# Altium schematic symbol library kmilo17pet-LT_OpAmp_LT2000.SchLib: 1710 symbols (part 10 of 75)
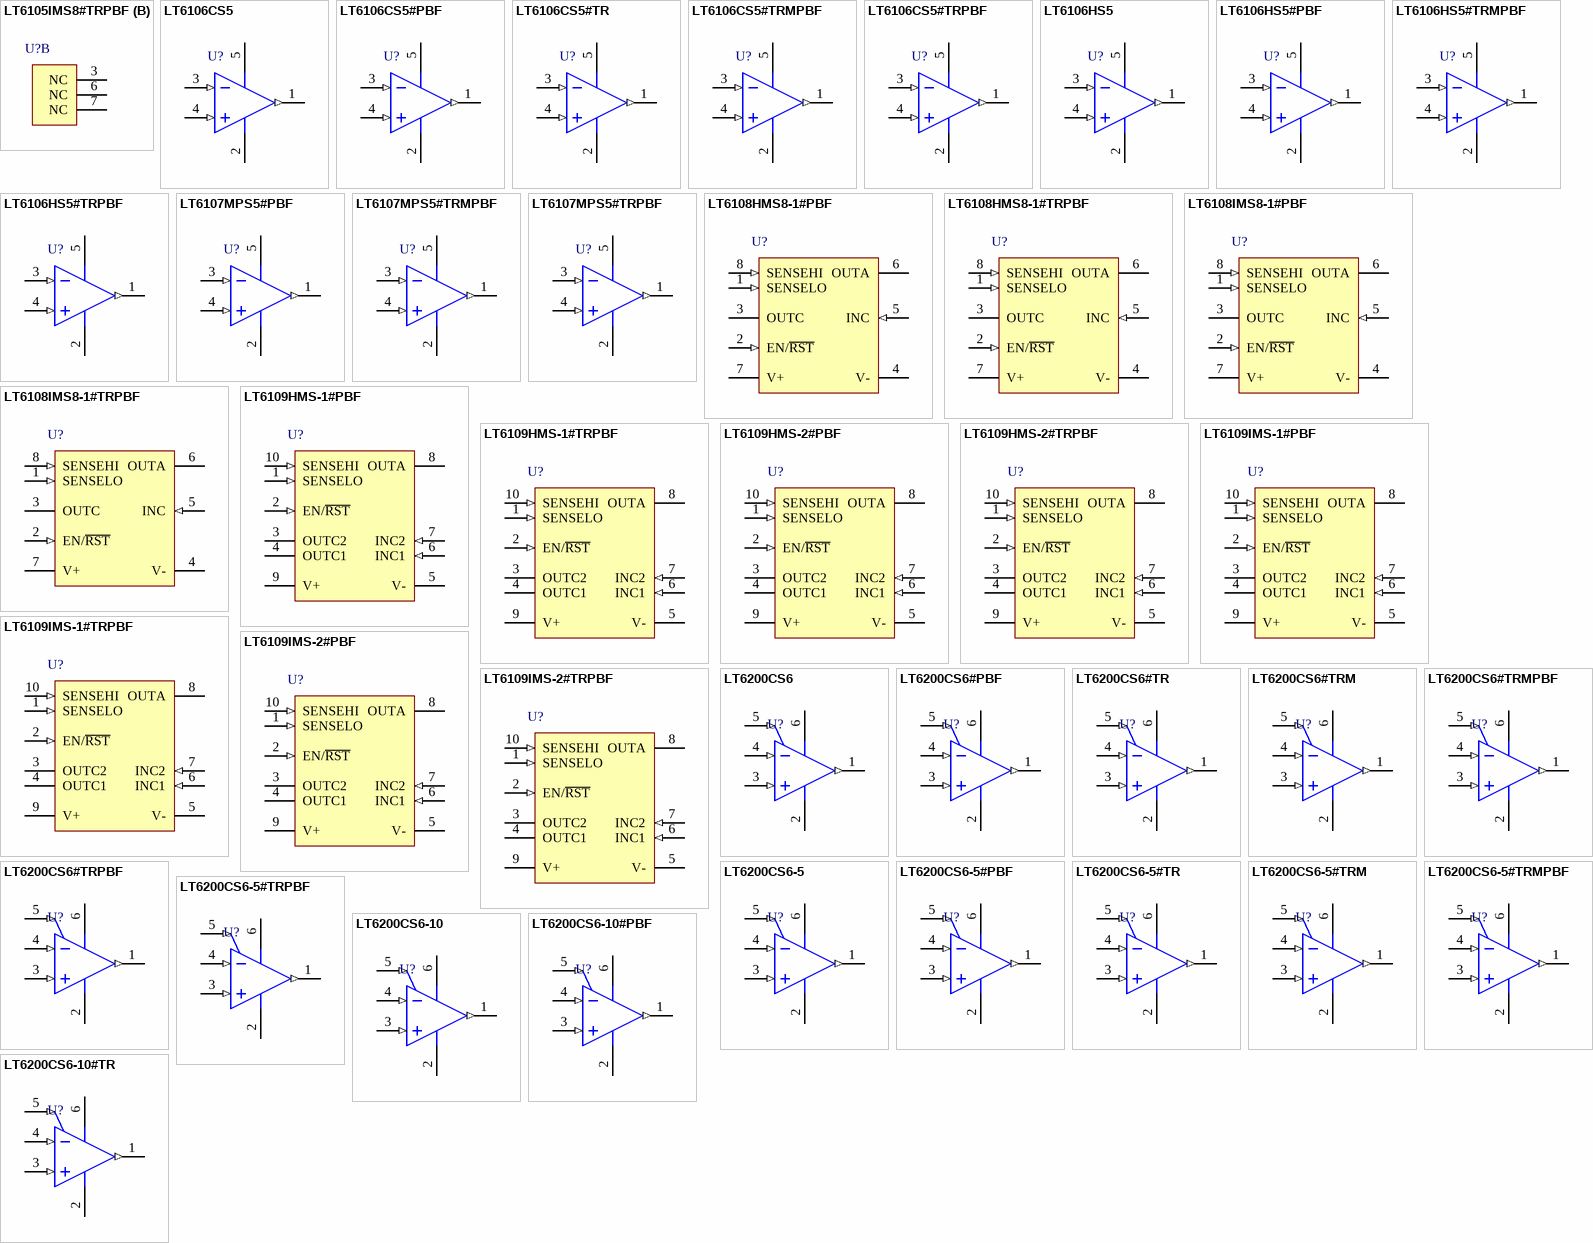
[diagram p89: symbols LT6105IMS8#TRPBF to LT6200CS6-10#TR]

## LT6107MPS5#PBF
designator U?
Single Channel, High Temperature High Side Current Sense Amplifier, 0.2 MHz Typical GBW, 2.7 to 36 V, 5-Pin SOT-23 (S5-5), Military Plastic, Pb-Free; Linear Technology Part Number: LT6107; Manufacturer: Linear Technology; PartNumber: LT6107MPS5#PBF; Channels (#): 1; GBW (MHz) Typical: 0.2; Is (mA) Typical: 0.06; Vos (mV) Guaranteed: 0.25; Vos (mV) Typical: 0.15; Vs Max (V): 36; Vs Min (V): 2.7; DatasheetVersion: Rev. B; PackageReference: LT-S5-5-TSOT-23; PackageDescription: 5-Lead Plastic TSOT-23, Body 1.63 x 2.90 mm, Pitch 0.95 mm; Supplier 1: Newark; Supplier Part Number 1: 69W6151; Supplier 2: Newark; Supplier Part Number 2: 10R2087; RoHS: Pb-Free; Type: CSA; Mounting Technology: Surface Mount; Code_JEDEC: MO-193; ComponentLink1Description: Manufacturer URL; ComponentLink1URL: http://www.linear.com/; ComponentLink2Description: Datasheet; ComponentLink2URL: http://cds.linear.com/docs/en/datasheet/6107fb.pdf; ComponentLink3Description: Package Specification; ComponentLink3URL: http://cds.linear.com/docs/en/packaging/SOT_5_05-08-1635.pdf
footprint LT-S5-5-TSOT-23_N (SOT23, 5-Leads, Body 2.90x1.63mm, Pitch 0.95mm, IPC Medium Density)
footprint LT-S5-5-TSOT-23_L (SOT23, 5-Leads, Body 2.90x1.63mm, Pitch 0.95mm, IPC High Density)
footprint LT-S5-5-TSOT-23_M (SOT23, 5-Leads, Body 2.90x1.63mm, Pitch 0.95mm, IPC Low Density)
pins: 1 OUT (out) "Current Output. OUT will source a current that is proportional to the sense voltage into an external resistor", 2 V- (power) "Normally Connected to Ground", 3 -IN (in) "The internal sense amplifi er will drive -IN to the same potential as +IN. A resistor (RIN) tied from V+ to -IN sets the output current IOUT = VSENSE/RIN. VSENSE is the voltage developed across RSENSE", 4 +IN (in) "Must be tied to the system load end of the sense resistor, either directly or through a resistor", 5 V+ (power) "Positive Supply Pin. The V+ pin should be connected directly to either side of the sense resistor, RSENSE. Supply current is drawn through this pin. The circuit may be confi gured so that the LT6106 supply current is or is (See Datasheet)"

## LT6107MPS5#TRMPBF
designator U?
Single Channel, High Temperature High Side Current Sense Amplifier, 0.2 MHz Typical GBW, 2.7 to 36 V, 5-Pin SOT-23 (S5-5), Military Plastic, Pb-Free, Mini Reel; Linear Technology Part Number: LT6107; Manufacturer: Linear Technology; PartNumber: LT6107MPS5#TRMPBF; Channels (#): 1; GBW (MHz) Typical: 0.2; Is (mA) Typical: 0.06; Vos (mV) Guaranteed: 0.25; Vos (mV) Typical: 0.15; Vs Max (V): 36; Vs Min (V): 2.7; DatasheetVersion: Rev. B; PackageReference: LT-S5-5-TSOT-23; PackageDescription: 5-Lead Plastic TSOT-23, Body 1.63 x 2.90 mm, Pitch 0.95 mm; Supplier 1: Digi-Key; Supplier Part Number 1: LT6107MPS5#TRMPBFTR-ND; Supplier 2: Digi-Key; Supplier Part Number 2: LT6107MPS5#TRMPBFCT-ND; Supplier 3: Digi-Key; Supplier Part Number 3: LT6107MPS5#TRMPBFDKR-ND; Supplier 4: Farnell; Supplier Part Number 4: 1715036RL; Supplier 5: Farnell; Supplier Part Number 5: 1715036; Supplier 6: Newark; Supplier Part Number 6: 15N3666; Packing: Mini Reel; RoHS: Pb-Free; Type: CSA; Mounting Technology: Surface Mount; Code_JEDEC: MO-193; ComponentLink1Description: Manufacturer URL; ComponentLink1URL: http://www.linear.com/; ComponentLink2Description: Datasheet; ComponentLink2URL: http://cds.linear.com/docs/en/datasheet/6107fb.pdf; ComponentLink3Description: Package Specification; ComponentLink3URL: http://cds.linear.com/docs/en/packaging/SOT_5_05-08-1635.pdf
footprint LT-S5-5-TSOT-23_N (SOT23, 5-Leads, Body 2.90x1.63mm, Pitch 0.95mm, IPC Medium Density)
footprint LT-S5-5-TSOT-23_L (SOT23, 5-Leads, Body 2.90x1.63mm, Pitch 0.95mm, IPC High Density)
footprint LT-S5-5-TSOT-23_M (SOT23, 5-Leads, Body 2.90x1.63mm, Pitch 0.95mm, IPC Low Density)
pins: 1 OUT (out) "Current Output. OUT will source a current that is proportional to the sense voltage into an external resistor", 2 V- (power) "Normally Connected to Ground", 3 -IN (in) "The internal sense amplifi er will drive -IN to the same potential as +IN. A resistor (RIN) tied from V+ to -IN sets the output current IOUT = VSENSE/RIN. VSENSE is the voltage developed across RSENSE", 4 +IN (in) "Must be tied to the system load end of the sense resistor, either directly or through a resistor", 5 V+ (power) "Positive Supply Pin. The V+ pin should be connected directly to either side of the sense resistor, RSENSE. Supply current is drawn through this pin. The circuit may be confi gured so that the LT6106 supply current is or is (See Datasheet)"

## LT6107MPS5#TRPBF
designator U?
Single Channel, High Temperature High Side Current Sense Amplifier, 0.2 MHz Typical GBW, 2.7 to 36 V, 5-Pin SOT-23 (S5-5), Military Plastic, Pb-Free, Reel; Linear Technology Part Number: LT6107; Manufacturer: Linear Technology; PartNumber: LT6107MPS5#TRPBF; Channels (#): 1; GBW (MHz) Typical: 0.2; Is (mA) Typical: 0.06; Vos (mV) Guaranteed: 0.25; Vos (mV) Typical: 0.15; Vs Max (V): 36; Vs Min (V): 2.7; DatasheetVersion: Rev. B; PackageReference: LT-S5-5-TSOT-23; PackageDescription: 5-Lead Plastic TSOT-23, Body 1.63 x 2.90 mm, Pitch 0.95 mm; Supplier 1: Digi-Key; Supplier Part Number 1: LT6107MPS5#TRPBF-ND; Packing: Reel; RoHS: Pb-Free; Type: CSA; Mounting Technology: Surface Mount; Code_JEDEC: MO-193; ComponentLink1Description: Manufacturer URL; ComponentLink1URL: http://www.linear.com/; ComponentLink2Description: Datasheet; ComponentLink2URL: http://cds.linear.com/docs/en/datasheet/6107fb.pdf; ComponentLink3Description: Package Specification; ComponentLink3URL: http://cds.linear.com/docs/en/packaging/SOT_5_05-08-1635.pdf
footprint LT-S5-5-TSOT-23_N (SOT23, 5-Leads, Body 2.90x1.63mm, Pitch 0.95mm, IPC Medium Density)
footprint LT-S5-5-TSOT-23_L (SOT23, 5-Leads, Body 2.90x1.63mm, Pitch 0.95mm, IPC High Density)
footprint LT-S5-5-TSOT-23_M (SOT23, 5-Leads, Body 2.90x1.63mm, Pitch 0.95mm, IPC Low Density)
pins: 1 OUT (out) "Current Output. OUT will source a current that is proportional to the sense voltage into an external resistor", 2 V- (power) "Normally Connected to Ground", 3 -IN (in) "The internal sense amplifi er will drive -IN to the same potential as +IN. A resistor (RIN) tied from V+ to -IN sets the output current IOUT = VSENSE/RIN. VSENSE is the voltage developed across RSENSE", 4 +IN (in) "Must be tied to the system load end of the sense resistor, either directly or through a resistor", 5 V+ (power) "Positive Supply Pin. The V+ pin should be connected directly to either side of the sense resistor, RSENSE. Supply current is drawn through this pin. The circuit may be confi gured so that the LT6106 supply current is or is (See Datasheet)"

## LT6108HMS8-1#PBF
designator U?
Single Channel, High Side Current Sense Amplifier with Reference and Latching Comparator, 1 MHz Typical GBW, 2.7 to 60 V, 8-Pin SOP (MS8-8), High Temperature / Automotive, Pb-Free; Linear Technology Part Number: LT6108-1; Manufacturer: Linear Technology; PartNumber: LT6108HMS8-1#PBF; Channels (#): 1; Is (mA) Typical: 0.045; Vos (mV) Typical: 0.35; Vs Max (V): 60; Vs Min (V): 2.7; PackageVersion: Rev G; PackageReference: LT-MS8-8; PackageDescription: 8-Lead Plastic Small Outline, Body 3.9 x 4.9 mm, Pitch 1.27 mm; Supplier 1: Digi-Key; Supplier Part Number 1: LT6108HMS8-1#PBF-ND; Supplier 2: Farnell; Supplier Part Number 2: 2097860; GBW (MHz) Typical: 1; RoHS: Pb-Free; Type: CSA; Mounting Technology: Surface Mount; ComponentLink1Description: Manufacturer URL; ComponentLink1URL: http://www.linear.com/; ComponentLink2Description: Datasheet; ComponentLink2URL: http://cds.linear.com/docs/en/datasheet/610812f.pdf; ComponentLink3Description: Package Specification; ComponentLink3URL: http://cds.linear.com/docs/en/packaging/05081610_G_SO8.pdf
footprint LT-MS8-8_N (SOP, 8-Leads, Body 3x3mm, Pitch 0.65mm, IPC Medium Density)
footprint LT-MS8-8_L (SOP, 8-Leads, Body 3x3mm, Pitch 0.65mm, IPC High Density)
footprint LT-MS8-8_M (SOP, 8-Leads, Body 3x3mm, Pitch 0.65mm, IPC Low Density)
pins: 1 SENSELO (in) "Sense Amplifier Input. This pin must be tied to the load end of the sense resistor.", 2 EN/~{RST} (in) "Enable and Latch Reset Input. When the enable pin is pulled high the LT6108-1 is enabled. When the enable pin is pulled low for longer than typically 40us, the LT6108-1 will enter the shutdown mode. Pulsing this pin low for (See Datasheet)", 3 OUTC (hiz) "Open-Drain Comparator Output. Off-state voltage may be as high as 60V above V-, regardless of V+ used.", 4 V- (power) "Negative Supply Pin. This pin is normally connected to ground.", 5 INC (in) "This is the inverting input of the comparator. The other comparator input is internally connected to the 400mV reference.", 6 OUTA (hiz) "Current Output of the Sense Amplifier. This pin will source a current that is equal to the sense voltage divided by the external gain setting resistor, RIN.", 7 V+ (power) "Positive Supply Pin. The V+ pin can be connected directly to either side of the sense resistor, RSENSE. When V+ is tied to the load end of the sense resistor, the SENSEHI pin can go up to 0.2V above V+. Supply current is (See Datasheet)", 8 SENSEHI (in) "Sense Amplifier Input. The internal sense amplifier will drive SENSEHI to the same potential as SENSELO. A resistor (typically RIN) tied from supply to SENSEHI sets the output current, IOUT = VSENSE/RIN, where VSENSE is the (See Datasheet)"

## LT6108HMS8-1#TRPBF
designator U?
Single Channel, High Side Current Sense Amplifier with Reference and Latching Comparator, 1 MHz Typical GBW, 2.7 to 60 V, 8-Pin SOP (MS8-8), High Temperature / Automotive, Pb-Free, Reel; Linear Technology Part Number: LT6108-1; Manufacturer: Linear Technology; PartNumber: LT6108HMS8-1#TRPBF; Channels (#): 1; Is (mA) Typical: 0.045; Vos (mV) Typical: 0.35; Vs Max (V): 60; Vs Min (V): 2.7; PackageVersion: Rev G; PackageReference: LT-MS8-8; PackageDescription: 8-Lead Plastic Small Outline, Body 3.9 x 4.9 mm, Pitch 1.27 mm; Supplier 1: Digi-Key; Supplier Part Number 1: LT6108HMS8-1#TRPBF-ND; GBW (MHz) Typical: 1; Packing: Reel; RoHS: Pb-Free; Type: CSA; Mounting Technology: Surface Mount; ComponentLink1Description: Manufacturer URL; ComponentLink1URL: http://www.linear.com/; ComponentLink2Description: Datasheet; ComponentLink2URL: http://cds.linear.com/docs/en/datasheet/610812f.pdf; ComponentLink3Description: Package Specification; ComponentLink3URL: http://cds.linear.com/docs/en/packaging/05081610_G_SO8.pdf
footprint LT-MS8-8_N (SOP, 8-Leads, Body 3x3mm, Pitch 0.65mm, IPC Medium Density)
footprint LT-MS8-8_L (SOP, 8-Leads, Body 3x3mm, Pitch 0.65mm, IPC High Density)
footprint LT-MS8-8_M (SOP, 8-Leads, Body 3x3mm, Pitch 0.65mm, IPC Low Density)
pins: 1 SENSELO (in) "Sense Amplifier Input. This pin must be tied to the load end of the sense resistor.", 2 EN/~{RST} (in) "Enable and Latch Reset Input. When the enable pin is pulled high the LT6108-1 is enabled. When the enable pin is pulled low for longer than typically 40us, the LT6108-1 will enter the shutdown mode. Pulsing this pin low for (See Datasheet)", 3 OUTC (hiz) "Open-Drain Comparator Output. Off-state voltage may be as high as 60V above V-, regardless of V+ used.", 4 V- (power) "Negative Supply Pin. This pin is normally connected to ground.", 5 INC (in) "This is the inverting input of the comparator. The other comparator input is internally connected to the 400mV reference.", 6 OUTA (hiz) "Current Output of the Sense Amplifier. This pin will source a current that is equal to the sense voltage divided by the external gain setting resistor, RIN.", 7 V+ (power) "Positive Supply Pin. The V+ pin can be connected directly to either side of the sense resistor, RSENSE. When V+ is tied to the load end of the sense resistor, the SENSEHI pin can go up to 0.2V above V+. Supply current is (See Datasheet)", 8 SENSEHI (in) "Sense Amplifier Input. The internal sense amplifier will drive SENSEHI to the same potential as SENSELO. A resistor (typically RIN) tied from supply to SENSEHI sets the output current, IOUT = VSENSE/RIN, where VSENSE is the (See Datasheet)"

## LT6108IMS8-1#PBF
designator U?
Single Channel, High Side Current Sense Amplifier with Reference and Latching Comparator, 1 MHz Typical GBW, 2.7 to 60 V, 8-Pin SOP (MS8-8), Industrial, Pb-Free; Linear Technology Part Number: LT6108-1; Manufacturer: Linear Technology; PartNumber: LT6108IMS8-1#PBF; Channels (#): 1; Is (mA) Typical: 0.045; Vos (mV) Typical: 0.35; Vs Max (V): 60; Vs Min (V): 2.7; PackageVersion: Rev G; PackageReference: LT-MS8-8; PackageDescription: 8-Lead Plastic Small Outline, Body 3.9 x 4.9 mm, Pitch 1.27 mm; Supplier 1: Digi-Key; Supplier Part Number 1: LT6108IMS8-1#PBF-ND; Supplier 2: Farnell; Supplier Part Number 2: 2097863; GBW (MHz) Typical: 1; RoHS: Pb-Free; Type: CSA; Mounting Technology: Surface Mount; ComponentLink1Description: Manufacturer URL; ComponentLink1URL: http://www.linear.com/; ComponentLink2Description: Datasheet; ComponentLink2URL: http://cds.linear.com/docs/en/datasheet/610812f.pdf; ComponentLink3Description: Package Specification; ComponentLink3URL: http://cds.linear.com/docs/en/packaging/05081610_G_SO8.pdf
footprint LT-MS8-8_N (SOP, 8-Leads, Body 3x3mm, Pitch 0.65mm, IPC Medium Density)
footprint LT-MS8-8_L (SOP, 8-Leads, Body 3x3mm, Pitch 0.65mm, IPC High Density)
footprint LT-MS8-8_M (SOP, 8-Leads, Body 3x3mm, Pitch 0.65mm, IPC Low Density)
pins: 1 SENSELO (in) "Sense Amplifier Input. This pin must be tied to the load end of the sense resistor.", 2 EN/~{RST} (in) "Enable and Latch Reset Input. When the enable pin is pulled high the LT6108-1 is enabled. When the enable pin is pulled low for longer than typically 40us, the LT6108-1 will enter the shutdown mode. Pulsing this pin low for (See Datasheet)", 3 OUTC (hiz) "Open-Drain Comparator Output. Off-state voltage may be as high as 60V above V-, regardless of V+ used.", 4 V- (power) "Negative Supply Pin. This pin is normally connected to ground.", 5 INC (in) "This is the inverting input of the comparator. The other comparator input is internally connected to the 400mV reference.", 6 OUTA (hiz) "Current Output of the Sense Amplifier. This pin will source a current that is equal to the sense voltage divided by the external gain setting resistor, RIN.", 7 V+ (power) "Positive Supply Pin. The V+ pin can be connected directly to either side of the sense resistor, RSENSE. When V+ is tied to the load end of the sense resistor, the SENSEHI pin can go up to 0.2V above V+. Supply current is (See Datasheet)", 8 SENSEHI (in) "Sense Amplifier Input. The internal sense amplifier will drive SENSEHI to the same potential as SENSELO. A resistor (typically RIN) tied from supply to SENSEHI sets the output current, IOUT = VSENSE/RIN, where VSENSE is the (See Datasheet)"

## LT6108IMS8-1#TRPBF
designator U?
Single Channel, High Side Current Sense Amplifier with Reference and Latching Comparator, 1 MHz Typical GBW, 2.7 to 60 V, 8-Pin SOP (MS8-8), Industrial, Pb-Free, Reel; Linear Technology Part Number: LT6108-1; Manufacturer: Linear Technology; PartNumber: LT6108IMS8-1#TRPBF; Channels (#): 1; Is (mA) Typical: 0.045; Vos (mV) Typical: 0.35; Vs Max (V): 60; Vs Min (V): 2.7; PackageVersion: Rev G; PackageReference: LT-MS8-8; PackageDescription: 8-Lead Plastic Small Outline, Body 3.9 x 4.9 mm, Pitch 1.27 mm; Supplier 1: Digi-Key; Supplier Part Number 1: LT6108IMS8-1#TRPBF-ND; GBW (MHz) Typical: 1; Packing: Reel; RoHS: Pb-Free; Type: CSA; Mounting Technology: Surface Mount; ComponentLink1Description: Manufacturer URL; ComponentLink1URL: http://www.linear.com/; ComponentLink2Description: Datasheet; ComponentLink2URL: http://cds.linear.com/docs/en/datasheet/610812f.pdf; ComponentLink3Description: Package Specification; ComponentLink3URL: http://cds.linear.com/docs/en/packaging/05081610_G_SO8.pdf
footprint LT-MS8-8_N (SOP, 8-Leads, Body 3x3mm, Pitch 0.65mm, IPC Medium Density)
footprint LT-MS8-8_L (SOP, 8-Leads, Body 3x3mm, Pitch 0.65mm, IPC High Density)
footprint LT-MS8-8_M (SOP, 8-Leads, Body 3x3mm, Pitch 0.65mm, IPC Low Density)
pins: 1 SENSELO (in) "Sense Amplifier Input. This pin must be tied to the load end of the sense resistor.", 2 EN/~{RST} (in) "Enable and Latch Reset Input. When the enable pin is pulled high the LT6108-1 is enabled. When the enable pin is pulled low for longer than typically 40us, the LT6108-1 will enter the shutdown mode. Pulsing this pin low for (See Datasheet)", 3 OUTC (hiz) "Open-Drain Comparator Output. Off-state voltage may be as high as 60V above V-, regardless of V+ used.", 4 V- (power) "Negative Supply Pin. This pin is normally connected to ground.", 5 INC (in) "This is the inverting input of the comparator. The other comparator input is internally connected to the 400mV reference.", 6 OUTA (hiz) "Current Output of the Sense Amplifier. This pin will source a current that is equal to the sense voltage divided by the external gain setting resistor, RIN.", 7 V+ (power) "Positive Supply Pin. The V+ pin can be connected directly to either side of the sense resistor, RSENSE. When V+ is tied to the load end of the sense resistor, the SENSEHI pin can go up to 0.2V above V+. Supply current is (See Datasheet)", 8 SENSEHI (in) "Sense Amplifier Input. The internal sense amplifier will drive SENSEHI to the same potential as SENSELO. A resistor (typically RIN) tied from supply to SENSEHI sets the output current, IOUT = VSENSE/RIN, where VSENSE is the (See Datasheet)"

## LT6109HMS-1#PBF
designator U?
Single Channel, High Side Current Sense Amplifier with Reference and Comparators, 1 MHz Typical GBW, 2.7 to 60 V, 10-Pin SOP (MS-10), High Temperature / Automotive, Pb-Free; Linear Technology Part Number: LTC6109-1; Manufacturer: Linear Technology; PartNumber: LT6109HMS-1#PBF; Channels (#): 1; Is (mA) Typical: 0.475; Vos (mV) Typical: 0.35; Vs Max (V): 60; Vs Min (V): 2.7; PackageVersion: Rev E; PackageReference: LT-MS-10; PackageDescription: 10-Lead Plastic MSOP, Body 3 x 3 mm, Pitch 0.5 mm; Supplier 1: Digi-Key; Supplier Part Number 1: LT6109HMS-1#PBF-ND; Supplier 2: Farnell; Supplier Part Number 2: 2009053; Supplier 3: Newark; Supplier Part Number 3: 59T5909; GBW (MHz) Typical: 1; RoHS: Pb-Free; Type: CSA; Mounting Technology: Surface Mount; ComponentLink1Description: Manufacturer URL; ComponentLink1URL: http://www.linear.com/; ComponentLink2Description: Datasheet; ComponentLink2URL: http://cds.linear.com/docs/en/datasheet/610912f.pdf; ComponentLink3Description: Package Specification; ComponentLink3URL: http://cds.linear.com/docs/en/packaging/MSOP_10_05-08-1661.pdf
footprint LT-MS-10_N (SOP, 10-Leads, Body 3x3mm, Pitch 0.50mm, IPC Medium Density)
footprint LT-MS-10_L (SOP, 10-Leads, Body 3x3mm, Pitch 0.50mm, IPC High Density)
footprint LT-MS-10_M (SOP, 10-Leads, Body 3x3mm, Pitch 0.50mm, IPC Low Density)
pins: 1 SENSELO (in) "Sense Amplifier Input. This pin must be tied to the load end of the sense resistor.", 2 EN/~{RST} (in) "Enable/Comparator Reset Input. When low for longer than 150us typically, the LT6109 will enter shutdown mode. Pulsing this pin low for between 2us and 15us will reset the comparators of the LT6109.", 3 OUTC2 (hiz) "Open-Drain Output for Comparator 2. Off-state voltage may be as high as 60V above ground, regardless of V+ used.", 4 OUTC1 (hiz) "Open-Drain Output for Comparator 1. Off-state voltage may be as high as 60V above ground, regardless of V+ used.", 5 V- (power) "Negative Supply Pin. This pin is normally connected to ground", 6 INC1 (in) "Inverting Input of Comparator 1. The noninverting input is internally connected to the 400mV reference", 7 INC2 (in) "Input of Comparator 2. For the LT6109-1 this is the noninverting input of comparator 2. For the LT6109-2 this is the inverting input of comparator 2. The other comparator input is internally connected to the 400mV reference.", 8 OUTA (hiz) "Current Output of the Sense Amplifier. This pin will source a current that is equal to the sense voltage divided by the external gain setting resistor, RIN.", 9 V+ (power) "Positive Supply Pin. The V+ pin can be connected directly to either side of the sense resistor, RSENSE. When V+ is tied to the load end of the sense resistor, the SENSEHI pin can go up to 0.2V above V+. Supply current is (See Datasheet)", 10 SENSEHI (in) "Sense Amplifier Input. The internal sense amplifier will drive SENSEHI to the same potential as SENSELO. A resistor (typically RIN) tied from V+ to SENSEHI sets the output current, IOUT = VSENSE/RIN, where VSENSE is the (See Datasheet)"

## LT6109HMS-1#TRPBF
designator U?
Single Channel, High Side Current Sense Amplifier with Reference and Comparators, 1 MHz Typical GBW, 2.7 to 60 V, 10-Pin SOP (MS-10), High Temperature / Automotive, Pb-Free, Reel; Linear Technology Part Number: LTC6109-1; Manufacturer: Linear Technology; PartNumber: LT6109HMS-1#TRPBF; Channels (#): 1; Is (mA) Typical: 0.475; Vos (mV) Typical: 0.35; Vs Max (V): 60; Vs Min (V): 2.7; PackageVersion: Rev E; PackageReference: LT-MS-10; PackageDescription: 10-Lead Plastic MSOP, Body 3 x 3 mm, Pitch 0.5 mm; Supplier 1: Digi-Key; Supplier Part Number 1: LT6109HMS-1#TRPBF-ND; GBW (MHz) Typical: 1; Packing: Reel; RoHS: Pb-Free; Type: CSA; Mounting Technology: Surface Mount; ComponentLink1Description: Manufacturer URL; ComponentLink1URL: http://www.linear.com/; ComponentLink2Description: Datasheet; ComponentLink2URL: http://cds.linear.com/docs/en/datasheet/610912f.pdf; ComponentLink3Description: Package Specification; ComponentLink3URL: http://cds.linear.com/docs/en/packaging/MSOP_10_05-08-1661.pdf
footprint LT-MS-10_N (SOP, 10-Leads, Body 3x3mm, Pitch 0.50mm, IPC Medium Density)
footprint LT-MS-10_L (SOP, 10-Leads, Body 3x3mm, Pitch 0.50mm, IPC High Density)
footprint LT-MS-10_M (SOP, 10-Leads, Body 3x3mm, Pitch 0.50mm, IPC Low Density)
pins: 1 SENSELO (in) "Sense Amplifier Input. This pin must be tied to the load end of the sense resistor.", 2 EN/~{RST} (in) "Enable/Comparator Reset Input. When low for longer than 150us typically, the LT6109 will enter shutdown mode. Pulsing this pin low for between 2us and 15us will reset the comparators of the LT6109.", 3 OUTC2 (hiz) "Open-Drain Output for Comparator 2. Off-state voltage may be as high as 60V above ground, regardless of V+ used.", 4 OUTC1 (hiz) "Open-Drain Output for Comparator 1. Off-state voltage may be as high as 60V above ground, regardless of V+ used.", 5 V- (power) "Negative Supply Pin. This pin is normally connected to ground", 6 INC1 (in) "Inverting Input of Comparator 1. The noninverting input is internally connected to the 400mV reference", 7 INC2 (in) "Input of Comparator 2. For the LT6109-1 this is the noninverting input of comparator 2. For the LT6109-2 this is the inverting input of comparator 2. The other comparator input is internally connected to the 400mV reference.", 8 OUTA (hiz) "Current Output of the Sense Amplifier. This pin will source a current that is equal to the sense voltage divided by the external gain setting resistor, RIN.", 9 V+ (power) "Positive Supply Pin. The V+ pin can be connected directly to either side of the sense resistor, RSENSE. When V+ is tied to the load end of the sense resistor, the SENSEHI pin can go up to 0.2V above V+. Supply current is (See Datasheet)", 10 SENSEHI (in) "Sense Amplifier Input. The internal sense amplifier will drive SENSEHI to the same potential as SENSELO. A resistor (typically RIN) tied from V+ to SENSEHI sets the output current, IOUT = VSENSE/RIN, where VSENSE is the (See Datasheet)"

## LT6109HMS-2#PBF
designator U?
Single Channel, High Side Current Sense Amplifier with Reference and Comparators, 1 MHz Typical GBW, 2.7 to 60 V, 10-Pin SOP (MS-10), High Temperature / Automotive, Pb-Free; Linear Technology Part Number: LTC6109-2; Manufacturer: Linear Technology; PartNumber: LT6109HMS-2#PBF; Channels (#): 1; Is (mA) Typical: 0.475; Vos (mV) Typical: 0.35; Vs Max (V): 60; Vs Min (V): 2.7; PackageVersion: Rev E; PackageReference: LT-MS-10; PackageDescription: 10-Lead Plastic MSOP, Body 3 x 3 mm, Pitch 0.5 mm; Supplier 1: Digi-Key; Supplier Part Number 1: LT6109HMS-2#PBF-ND; Supplier 2: Farnell; Supplier Part Number 2: 2009054; Supplier 3: Newark; Supplier Part Number 3: 59T5911; GBW (MHz) Typical: 1; RoHS: Pb-Free; Type: CSA; Mounting Technology: Surface Mount; ComponentLink1Description: Manufacturer URL; ComponentLink1URL: http://www.linear.com/; ComponentLink2Description: Datasheet; ComponentLink2URL: http://cds.linear.com/docs/en/datasheet/610912f.pdf; ComponentLink3Description: Package Specification; ComponentLink3URL: http://cds.linear.com/docs/en/packaging/MSOP_10_05-08-1661.pdf
footprint LT-MS-10_N (SOP, 10-Leads, Body 3x3mm, Pitch 0.50mm, IPC Medium Density)
footprint LT-MS-10_L (SOP, 10-Leads, Body 3x3mm, Pitch 0.50mm, IPC High Density)
footprint LT-MS-10_M (SOP, 10-Leads, Body 3x3mm, Pitch 0.50mm, IPC Low Density)
pins: 1 SENSELO (in) "Sense Amplifier Input. This pin must be tied to the load end of the sense resistor.", 2 EN/~{RST} (in) "Enable/Comparator Reset Input. When low for longer than 150us typically, the LT6109 will enter shutdown mode. Pulsing this pin low for between 2us and 15us will reset the comparators of the LT6109.", 3 OUTC2 (hiz) "Open-Drain Output for Comparator 2. Off-state voltage may be as high as 60V above ground, regardless of V+ used.", 4 OUTC1 (hiz) "Open-Drain Output for Comparator 1. Off-state voltage may be as high as 60V above ground, regardless of V+ used.", 5 V- (power) "Negative Supply Pin. This pin is normally connected to ground.", 6 INC1 (in) "Inverting Input of Comparator 1. The noninverting input is internally connected to the 400mV reference.", 7 INC2 (in) "Input of Comparator 2. For the LT6109-1 this is the noninverting input of comparator 2. For the LT6109-2 this is the inverting input of comparator 2. The other comparator input is internally connected to the 400mV reference.", 8 OUTA (hiz) "Current Output of the Sense Amplifier. This pin will source a current that is equal to the sense voltage divided by the external gain setting resistor, RIN.", 9 V+ (power) "Positive Supply Pin. The V+ pin can be connected directly to either side of the sense resistor, RSENSE. When V+ is tied to the load end of the sense resistor, the SENSEHI pin can go up to 0.2V above V+. Supply current is (See Datasheet)", 10 SENSEHI (in) "Sense Amplifier Input. The internal sense amplifier will drive SENSEHI to the same potential as SENSELO. A resistor (typically RIN) tied from V+ to SENSEHI sets the output current, IOUT = VSENSE/RIN, where VSENSE is the (See Datasheet)"

## LT6109HMS-2#TRPBF
designator U?
Single Channel, High Side Current Sense Amplifier with Reference and Comparators, 1 MHz Typical GBW, 2.7 to 60 V, 10-Pin SOP (MS-10), High Temperature / Automotive, Pb-Free, Reel; Linear Technology Part Number: LTC6109-2; Manufacturer: Linear Technology; PartNumber: LT6109HMS-2#TRPBF; Channels (#): 1; Is (mA) Typical: 0.475; Vos (mV) Typical: 0.35; Vs Max (V): 60; Vs Min (V): 2.7; PackageVersion: Rev E; PackageReference: LT-MS-10; PackageDescription: 10-Lead Plastic MSOP, Body 3 x 3 mm, Pitch 0.5 mm; Supplier 1: Digi-Key; Supplier Part Number 1: LT6109HMS-2#TRPBF-ND; GBW (MHz) Typical: 1; Packing: Reel; RoHS: Pb-Free; Type: CSA; Mounting Technology: Surface Mount; ComponentLink1Description: Manufacturer URL; ComponentLink1URL: http://www.linear.com/; ComponentLink2Description: Datasheet; ComponentLink2URL: http://cds.linear.com/docs/en/datasheet/610912f.pdf; ComponentLink3Description: Package Specification; ComponentLink3URL: http://cds.linear.com/docs/en/packaging/MSOP_10_05-08-1661.pdf
footprint LT-MS-10_N (SOP, 10-Leads, Body 3x3mm, Pitch 0.50mm, IPC Medium Density)
footprint LT-MS-10_L (SOP, 10-Leads, Body 3x3mm, Pitch 0.50mm, IPC High Density)
footprint LT-MS-10_M (SOP, 10-Leads, Body 3x3mm, Pitch 0.50mm, IPC Low Density)
pins: 1 SENSELO (in) "Sense Amplifier Input. This pin must be tied to the load end of the sense resistor.", 2 EN/~{RST} (in) "Enable/Comparator Reset Input. When low for longer than 150us typically, the LT6109 will enter shutdown mode. Pulsing this pin low for between 2us and 15us will reset the comparators of the LT6109.", 3 OUTC2 (hiz) "Open-Drain Output for Comparator 2. Off-state voltage may be as high as 60V above ground, regardless of V+ used.", 4 OUTC1 (hiz) "Open-Drain Output for Comparator 1. Off-state voltage may be as high as 60V above ground, regardless of V+ used.", 5 V- (power) "Negative Supply Pin. This pin is normally connected to ground.", 6 INC1 (in) "Inverting Input of Comparator 1. The noninverting input is internally connected to the 400mV reference.", 7 INC2 (in) "Input of Comparator 2. For the LT6109-1 this is the noninverting input of comparator 2. For the LT6109-2 this is the inverting input of comparator 2. The other comparator input is internally connected to the 400mV reference.", 8 OUTA (hiz) "Current Output of the Sense Amplifier. This pin will source a current that is equal to the sense voltage divided by the external gain setting resistor, RIN.", 9 V+ (power) "Positive Supply Pin. The V+ pin can be connected directly to either side of the sense resistor, RSENSE. When V+ is tied to the load end of the sense resistor, the SENSEHI pin can go up to 0.2V above V+. Supply current is (See Datasheet)", 10 SENSEHI (in) "Sense Amplifier Input. The internal sense amplifier will drive SENSEHI to the same potential as SENSELO. A resistor (typically RIN) tied from V+ to SENSEHI sets the output current, IOUT = VSENSE/RIN, where VSENSE is the (See Datasheet)"

## LT6109IMS-1#PBF
designator U?
Single Channel, High Side Current Sense Amplifier with Reference and Comparators, 1 MHz Typical GBW, 2.7 to 60 V, 10-Pin SOP (MS-10), Industial, Pb-Free; Linear Technology Part Number: LTC6109-1; Manufacturer: Linear Technology; PartNumber: LT6109IMS-1#PBF; Channels (#): 1; Is (mA) Typical: 0.475; Vos (mV) Typical: 0.35; Vs Max (V): 60; Vs Min (V): 2.7; PackageVersion: Rev E; PackageReference: LT-MS-10; PackageDescription: 10-Lead Plastic MSOP, Body 3 x 3 mm, Pitch 0.5 mm; Supplier 1: Digi-Key; Supplier Part Number 1: LT6109IMS-1#PBF-ND; GBW (MHz) Typical: 1; RoHS: Pb-Free; Type: CSA; Mounting Technology: Surface Mount; ComponentLink1Description: Manufacturer URL; ComponentLink1URL: http://www.linear.com/; ComponentLink2Description: Datasheet; ComponentLink2URL: http://cds.linear.com/docs/en/datasheet/610912f.pdf; ComponentLink3Description: Package Specification; ComponentLink3URL: http://cds.linear.com/docs/en/packaging/MSOP_10_05-08-1661.pdf
footprint LT-MS-10_N (SOP, 10-Leads, Body 3x3mm, Pitch 0.50mm, IPC Medium Density)
footprint LT-MS-10_L (SOP, 10-Leads, Body 3x3mm, Pitch 0.50mm, IPC High Density)
footprint LT-MS-10_M (SOP, 10-Leads, Body 3x3mm, Pitch 0.50mm, IPC Low Density)
pins: 1 SENSELO (in) "Sense Amplifier Input. This pin must be tied to the load end of the sense resistor.", 2 EN/~{RST} (in) "Enable/Comparator Reset Input. When low for longer than 150us typically, the LT6109 will enter shutdown mode. Pulsing this pin low for between 2us and 15us will reset the comparators of the LT6109.", 3 OUTC2 (hiz) "Open-Drain Output for Comparator 2. Off-state voltage may be as high as 60V above ground, regardless of V+ used.", 4 OUTC1 (hiz) "Open-Drain Output for Comparator 1. Off-state voltage may be as high as 60V above ground, regardless of V+ used.", 5 V- (power) "Negative Supply Pin. This pin is normally connected to ground", 6 INC1 (in) "Inverting Input of Comparator 1. The noninverting input is internally connected to the 400mV reference", 7 INC2 (in) "Input of Comparator 2. For the LT6109-1 this is the noninverting input of comparator 2. For the LT6109-2 this is the inverting input of comparator 2. The other comparator input is internally connected to the 400mV reference.", 8 OUTA (hiz) "Current Output of the Sense Amplifier. This pin will source a current that is equal to the sense voltage divided by the external gain setting resistor, RIN.", 9 V+ (power) "Positive Supply Pin. The V+ pin can be connected directly to either side of the sense resistor, RSENSE. When V+ is tied to the load end of the sense resistor, the SENSEHI pin can go up to 0.2V above V+. Supply current is (See Datasheet)", 10 SENSEHI (in) "Sense Amplifier Input. The internal sense amplifier will drive SENSEHI to the same potential as SENSELO. A resistor (typically RIN) tied from V+ to SENSEHI sets the output current, IOUT = VSENSE/RIN, where VSENSE is the (See Datasheet)"

## LT6109IMS-1#TRPBF
designator U?
Single Channel, High Side Current Sense Amplifier with Reference and Comparators, 1 MHz Typical GBW, 2.7 to 60 V, 10-Pin SOP (MS-10), Industial, Pb-Free, Reel; Linear Technology Part Number: LTC6109-1; Manufacturer: Linear Technology; PartNumber: LT6109IMS-1#TRPBF; Channels (#): 1; Is (mA) Typical: 0.475; Vos (mV) Typical: 0.35; Vs Max (V): 60; Vs Min (V): 2.7; PackageVersion: Rev E; PackageReference: LT-MS-10; PackageDescription: 10-Lead Plastic MSOP, Body 3 x 3 mm, Pitch 0.5 mm; Supplier 1: Digi-Key; Supplier Part Number 1: LT6109IMS-1#TRPBF-ND; GBW (MHz) Typical: 1; Packing: Reel; RoHS: Pb-Free; Type: CSA; Mounting Technology: Surface Mount; ComponentLink1Description: Manufacturer URL; ComponentLink1URL: http://www.linear.com/; ComponentLink2Description: Datasheet; ComponentLink2URL: http://cds.linear.com/docs/en/datasheet/610912f.pdf; ComponentLink3Description: Package Specification; ComponentLink3URL: http://cds.linear.com/docs/en/packaging/MSOP_10_05-08-1661.pdf
footprint LT-MS-10_N (SOP, 10-Leads, Body 3x3mm, Pitch 0.50mm, IPC Medium Density)
footprint LT-MS-10_L (SOP, 10-Leads, Body 3x3mm, Pitch 0.50mm, IPC High Density)
footprint LT-MS-10_M (SOP, 10-Leads, Body 3x3mm, Pitch 0.50mm, IPC Low Density)
pins: 1 SENSELO (in) "Sense Amplifier Input. This pin must be tied to the load end of the sense resistor.", 2 EN/~{RST} (in) "Enable/Comparator Reset Input. When low for longer than 150us typically, the LT6109 will enter shutdown mode. Pulsing this pin low for between 2us and 15us will reset the comparators of the LT6109.", 3 OUTC2 (hiz) "Open-Drain Output for Comparator 2. Off-state voltage may be as high as 60V above ground, regardless of V+ used.", 4 OUTC1 (hiz) "Open-Drain Output for Comparator 1. Off-state voltage may be as high as 60V above ground, regardless of V+ used.", 5 V- (power) "Negative Supply Pin. This pin is normally connected to ground", 6 INC1 (in) "Inverting Input of Comparator 1. The noninverting input is internally connected to the 400mV reference", 7 INC2 (in) "Input of Comparator 2. For the LT6109-1 this is the noninverting input of comparator 2. For the LT6109-2 this is the inverting input of comparator 2. The other comparator input is internally connected to the 400mV reference.", 8 OUTA (hiz) "Current Output of the Sense Amplifier. This pin will source a current that is equal to the sense voltage divided by the external gain setting resistor, RIN.", 9 V+ (power) "Positive Supply Pin. The V+ pin can be connected directly to either side of the sense resistor, RSENSE. When V+ is tied to the load end of the sense resistor, the SENSEHI pin can go up to 0.2V above V+. Supply current is (See Datasheet)", 10 SENSEHI (in) "Sense Amplifier Input. The internal sense amplifier will drive SENSEHI to the same potential as SENSELO. A resistor (typically RIN) tied from V+ to SENSEHI sets the output current, IOUT = VSENSE/RIN, where VSENSE is the (See Datasheet)"

## LT6109IMS-2#PBF
designator U?
Single Channel, High Side Current Sense Amplifier with Reference and Comparators, 1 MHz Typical GBW, 2.7 to 60 V, 10-Pin SOP (MS-10), Industrial, Pb-Free; Linear Technology Part Number: LTC6109-2; Manufacturer: Linear Technology; PartNumber: LT6109IMS-2#PBF; Channels (#): 1; Is (mA) Typical: 0.475; Vos (mV) Typical: 0.35; Vs Max (V): 60; Vs Min (V): 2.7; PackageVersion: Rev E; PackageReference: LT-MS-10; PackageDescription: 10-Lead Plastic MSOP, Body 3 x 3 mm, Pitch 0.5 mm; Supplier 1: Digi-Key; Supplier Part Number 1: LT6109IMS-2#PBF-ND; GBW (MHz) Typical: 1; RoHS: Pb-Free; Type: CSA; Mounting Technology: Surface Mount; ComponentLink1Description: Manufacturer URL; ComponentLink1URL: http://www.linear.com/; ComponentLink2Description: Datasheet; ComponentLink2URL: http://cds.linear.com/docs/en/datasheet/610912f.pdf; ComponentLink3Description: Package Specification; ComponentLink3URL: http://cds.linear.com/docs/en/packaging/MSOP_10_05-08-1661.pdf
footprint LT-MS-10_N (SOP, 10-Leads, Body 3x3mm, Pitch 0.50mm, IPC Medium Density)
footprint LT-MS-10_L (SOP, 10-Leads, Body 3x3mm, Pitch 0.50mm, IPC High Density)
footprint LT-MS-10_M (SOP, 10-Leads, Body 3x3mm, Pitch 0.50mm, IPC Low Density)
pins: 1 SENSELO (in) "Sense Amplifier Input. This pin must be tied to the load end of the sense resistor.", 2 EN/~{RST} (in) "Enable/Comparator Reset Input. When low for longer than 150us typically, the LT6109 will enter shutdown mode. Pulsing this pin low for between 2us and 15us will reset the comparators of the LT6109.", 3 OUTC2 (hiz) "Open-Drain Output for Comparator 2. Off-state voltage may be as high as 60V above ground, regardless of V+ used.", 4 OUTC1 (hiz) "Open-Drain Output for Comparator 1. Off-state voltage may be as high as 60V above ground, regardless of V+ used.", 5 V- (power) "Negative Supply Pin. This pin is normally connected to ground.", 6 INC1 (in) "Inverting Input of Comparator 1. The noninverting input is internally connected to the 400mV reference.", 7 INC2 (in) "Input of Comparator 2. For the LT6109-1 this is the noninverting input of comparator 2. For the LT6109-2 this is the inverting input of comparator 2. The other comparator input is internally connected to the 400mV reference.", 8 OUTA (hiz) "Current Output of the Sense Amplifier. This pin will source a current that is equal to the sense voltage divided by the external gain setting resistor, RIN.", 9 V+ (power) "Positive Supply Pin. The V+ pin can be connected directly to either side of the sense resistor, RSENSE. When V+ is tied to the load end of the sense resistor, the SENSEHI pin can go up to 0.2V above V+. Supply current is (See Datasheet)", 10 SENSEHI (in) "Sense Amplifier Input. The internal sense amplifier will drive SENSEHI to the same potential as SENSELO. A resistor (typically RIN) tied from V+ to SENSEHI sets the output current, IOUT = VSENSE/RIN, where VSENSE is the (See Datasheet)"

## LT6109IMS-2#TRPBF
designator U?
Single Channel, High Side Current Sense Amplifier with Reference and Comparators, 1 MHz Typical GBW, 2.7 to 60 V, 10-Pin SOP (MS-10), Industrial, Pb-Free, Reel; Linear Technology Part Number: LTC6109-2; Manufacturer: Linear Technology; PartNumber: LT6109IMS-2#TRPBF; Channels (#): 1; Is (mA) Typical: 0.475; Vos (mV) Typical: 0.35; Vs Max (V): 60; Vs Min (V): 2.7; PackageVersion: Rev E; PackageReference: LT-MS-10; PackageDescription: 10-Lead Plastic MSOP, Body 3 x 3 mm, Pitch 0.5 mm; Supplier 1: Digi-Key; Supplier Part Number 1: LT6109IMS-2#TRPBF-ND; GBW (MHz) Typical: 1; Packing: Reel; RoHS: Pb-Free; Type: CSA; Mounting Technology: Surface Mount; ComponentLink1Description: Manufacturer URL; ComponentLink1URL: http://www.linear.com/; ComponentLink2Description: Datasheet; ComponentLink2URL: http://cds.linear.com/docs/en/datasheet/610912f.pdf; ComponentLink3Description: Package Specification; ComponentLink3URL: http://cds.linear.com/docs/en/packaging/MSOP_10_05-08-1661.pdf
footprint LT-MS-10_N (SOP, 10-Leads, Body 3x3mm, Pitch 0.50mm, IPC Medium Density)
footprint LT-MS-10_L (SOP, 10-Leads, Body 3x3mm, Pitch 0.50mm, IPC High Density)
footprint LT-MS-10_M (SOP, 10-Leads, Body 3x3mm, Pitch 0.50mm, IPC Low Density)
pins: 1 SENSELO (in) "Sense Amplifier Input. This pin must be tied to the load end of the sense resistor.", 2 EN/~{RST} (in) "Enable/Comparator Reset Input. When low for longer than 150us typically, the LT6109 will enter shutdown mode. Pulsing this pin low for between 2us and 15us will reset the comparators of the LT6109.", 3 OUTC2 (hiz) "Open-Drain Output for Comparator 2. Off-state voltage may be as high as 60V above ground, regardless of V+ used.", 4 OUTC1 (hiz) "Open-Drain Output for Comparator 1. Off-state voltage may be as high as 60V above ground, regardless of V+ used.", 5 V- (power) "Negative Supply Pin. This pin is normally connected to ground.", 6 INC1 (in) "Inverting Input of Comparator 1. The noninverting input is internally connected to the 400mV reference.", 7 INC2 (in) "Input of Comparator 2. For the LT6109-1 this is the noninverting input of comparator 2. For the LT6109-2 this is the inverting input of comparator 2. The other comparator input is internally connected to the 400mV reference.", 8 OUTA (hiz) "Current Output of the Sense Amplifier. This pin will source a current that is equal to the sense voltage divided by the external gain setting resistor, RIN.", 9 V+ (power) "Positive Supply Pin. The V+ pin can be connected directly to either side of the sense resistor, RSENSE. When V+ is tied to the load end of the sense resistor, the SENSEHI pin can go up to 0.2V above V+. Supply current is (See Datasheet)", 10 SENSEHI (in) "Sense Amplifier Input. The internal sense amplifier will drive SENSEHI to the same potential as SENSELO. A resistor (typically RIN) tied from V+ to SENSEHI sets the output current, IOUT = VSENSE/RIN, where VSENSE is the (See Datasheet)"

## LT6200CS6
designator U?
Single Channel, Low Noise, High Speed Operational Amplifier, RRIO, Unity Gain Stable, 165 MHz Typical GBW, 44 V/us Typical SR, 2.5 to 12.6 V, 6-Pin SOT23 (S6-6), Commercial; Linear Technology Part Number: LT6200; Manufacturer: Linear Technology; PartNumber: LT6200CS6; Channels (#): 1; GBW (MHz) Typical: 165; Is (mA) Typical: 20; SR (V/us) Typical: 44; Vos (mV) Typical: 0.1; Vs Max (V): 12.6; Vs Min (V): 2.5; DatasheetVersion: Rev. F; PackageReference: LT-S6-6-TSOT-23; PackageDescription: 6-Pin Plastic TSOT-23, Body 2.9 x 1.63 mm, Pitch 0.95 mm; Type: VFB; Vos (mV) Guaranteed: 1; Mounting Technology: Surface Mount; Code_JEDEC: MO-193; ComponentLink1Description: Manufacturer URL; ComponentLink1URL: http://www.linear.com/; ComponentLink2Description: Datasheet; ComponentLink2URL: http://cds.linear.com/docs/en/datasheet/62001ff.pdf; ComponentLink3Description: Package Specification; ComponentLink3URL: http://cds.linear.com/docs/en/packaging/SOT_6_05-08-1636.pdf
footprint LT-S6-6-TSOT-23_N (SOT23, 6-Leads, Body 2.90x1.63mm, Pitch 0.95mm, IPC Medium Density)
footprint LT-S6-6-TSOT-23_L (SOT23, 6-Leads, Body 2.90x1.63mm, Pitch 0.95mm, IPC High Density)
footprint LT-S6-6-TSOT-23_M (SOT23, 6-Leads, Body 2.90x1.63mm, Pitch 0.95mm, IPC Low Density)
pins: 1 OUT (out), 2 V- (power), 3 +IN (in), 4 -IN (in), 5 ~{SHDN} (in), 6 V+ (power)

## LT6200CS6#PBF
designator U?
Single Channel, Low Noise, High Speed Operational Amplifier, RRIO, Unity Gain Stable, 165 MHz Typical GBW, 44 V/us Typical SR, 2.5 to 12.6 V, 6-Pin SOT23 (S6-6), Commercial, Pb-Free; Linear Technology Part Number: LT6200; Manufacturer: Linear Technology; PartNumber: LT6200CS6#PBF; Channels (#): 1; GBW (MHz) Typical: 165; Is (mA) Typical: 20; SR (V/us) Typical: 44; Vos (mV) Typical: 0.1; Vs Max (V): 12.6; Vs Min (V): 2.5; DatasheetVersion: Rev. F; PackageReference: LT-S6-6-TSOT-23; PackageDescription: 6-Pin Plastic TSOT-23, Body 2.9 x 1.63 mm, Pitch 0.95 mm; Supplier 1: Farnell; Supplier Part Number 1: 2308220; Supplier 2: Newark; Supplier Part Number 2: 78T4162; RoHS: Pb-Free; Type: VFB; Vos (mV) Guaranteed: 1; Mounting Technology: Surface Mount; Code_JEDEC: MO-193; ComponentLink1Description: Manufacturer URL; ComponentLink1URL: http://www.linear.com/; ComponentLink2Description: Datasheet; ComponentLink2URL: http://cds.linear.com/docs/en/datasheet/62001ff.pdf; ComponentLink3Description: Package Specification; ComponentLink3URL: http://cds.linear.com/docs/en/packaging/SOT_6_05-08-1636.pdf
footprint LT-S6-6-TSOT-23_N (SOT23, 6-Leads, Body 2.90x1.63mm, Pitch 0.95mm, IPC Medium Density)
footprint LT-S6-6-TSOT-23_L (SOT23, 6-Leads, Body 2.90x1.63mm, Pitch 0.95mm, IPC High Density)
footprint LT-S6-6-TSOT-23_M (SOT23, 6-Leads, Body 2.90x1.63mm, Pitch 0.95mm, IPC Low Density)
pins: 1 OUT (out), 2 V- (power), 3 +IN (in), 4 -IN (in), 5 ~{SHDN} (in), 6 V+ (power)

## LT6200CS6#TR
designator U?
Single Channel, Low Noise, High Speed Operational Amplifier, RRIO, Unity Gain Stable, 165 MHz Typical GBW, 44 V/us Typical SR, 2.5 to 12.6 V, 6-Pin SOT23 (S6-6), Commercial, Reel; Linear Technology Part Number: LT6200; Manufacturer: Linear Technology; PartNumber: LT6200CS6#TR; Channels (#): 1; GBW (MHz) Typical: 165; Is (mA) Typical: 20; SR (V/us) Typical: 44; Vos (mV) Typical: 0.1; Vs Max (V): 12.6; Vs Min (V): 2.5; DatasheetVersion: Rev. F; PackageReference: LT-S6-6-TSOT-23; PackageDescription: 6-Pin Plastic TSOT-23, Body 2.9 x 1.63 mm, Pitch 0.95 mm; Supplier 1: Digi-Key; Supplier Part Number 1: LT6200CS6#TR-ND; Packing: Reel; Type: VFB; Vos (mV) Guaranteed: 1; Mounting Technology: Surface Mount; Code_JEDEC: MO-193; ComponentLink1Description: Manufacturer URL; ComponentLink1URL: http://www.linear.com/; ComponentLink2Description: Datasheet; ComponentLink2URL: http://cds.linear.com/docs/en/datasheet/62001ff.pdf; ComponentLink3Description: Package Specification; ComponentLink3URL: http://cds.linear.com/docs/en/packaging/SOT_6_05-08-1636.pdf
footprint LT-S6-6-TSOT-23_N (SOT23, 6-Leads, Body 2.90x1.63mm, Pitch 0.95mm, IPC Medium Density)
footprint LT-S6-6-TSOT-23_L (SOT23, 6-Leads, Body 2.90x1.63mm, Pitch 0.95mm, IPC High Density)
footprint LT-S6-6-TSOT-23_M (SOT23, 6-Leads, Body 2.90x1.63mm, Pitch 0.95mm, IPC Low Density)
pins: 1 OUT (out), 2 V- (power), 3 +IN (in), 4 -IN (in), 5 ~{SHDN} (in), 6 V+ (power)

## LT6200CS6#TRM
designator U?
Single Channel, Low Noise, High Speed Operational Amplifier, RRIO, Unity Gain Stable, 165 MHz Typical GBW, 44 V/us Typical SR, 2.5 to 12.6 V, 6-Pin SOT23 (S6-6), Commercial, Mini Reel; Linear Technology Part Number: LT6200; Manufacturer: Linear Technology; PartNumber: LT6200CS6#TRM; Channels (#): 1; GBW (MHz) Typical: 165; Is (mA) Typical: 20; SR (V/us) Typical: 44; Vos (mV) Typical: 0.1; Vs Max (V): 12.6; Vs Min (V): 2.5; DatasheetVersion: Rev. F; PackageReference: LT-S6-6-TSOT-23; PackageDescription: 6-Pin Plastic TSOT-23, Body 2.9 x 1.63 mm, Pitch 0.95 mm; Supplier 1: Digi-Key; Supplier Part Number 1: LT6200CS6#TRMTR-ND; Supplier 2: Digi-Key; Supplier Part Number 2: LT6200CS6#TRMCT-ND; Packing: Mini Reel; Type: VFB; Vos (mV) Guaranteed: 1; Mounting Technology: Surface Mount; Code_JEDEC: MO-193; ComponentLink1Description: Manufacturer URL; ComponentLink1URL: http://www.linear.com/; ComponentLink2Description: Datasheet; ComponentLink2URL: http://cds.linear.com/docs/en/datasheet/62001ff.pdf; ComponentLink3Description: Package Specification; ComponentLink3URL: http://cds.linear.com/docs/en/packaging/SOT_6_05-08-1636.pdf
footprint LT-S6-6-TSOT-23_N (SOT23, 6-Leads, Body 2.90x1.63mm, Pitch 0.95mm, IPC Medium Density)
footprint LT-S6-6-TSOT-23_L (SOT23, 6-Leads, Body 2.90x1.63mm, Pitch 0.95mm, IPC High Density)
footprint LT-S6-6-TSOT-23_M (SOT23, 6-Leads, Body 2.90x1.63mm, Pitch 0.95mm, IPC Low Density)
pins: 1 OUT (out), 2 V- (power), 3 +IN (in), 4 -IN (in), 5 ~{SHDN} (in), 6 V+ (power)

## LT6200CS6#TRMPBF
designator U?
Single Channel, Low Noise, High Speed Operational Amplifier, RRIO, Unity Gain Stable, 165 MHz Typical GBW, 44 V/us Typical SR, 2.5 to 12.6 V, 6-Pin SOT23 (S6-6), Commercial, Pb-Free, Mini Reel; Linear Technology Part Number: LT6200; Manufacturer: Linear Technology; PartNumber: LT6200CS6#TRMPBF; Channels (#): 1; GBW (MHz) Typical: 165; Is (mA) Typical: 20; SR (V/us) Typical: 44; Vos (mV) Typical: 0.1; Vs Max (V): 12.6; Vs Min (V): 2.5; DatasheetVersion: Rev. F; PackageReference: LT-S6-6-TSOT-23; PackageDescription: 6-Pin Plastic TSOT-23, Body 2.9 x 1.63 mm, Pitch 0.95 mm; Supplier 1: Digi-Key; Supplier Part Number 1: LT6200CS6#TRMPBFTR-ND; Supplier 2: Digi-Key; Supplier Part Number 2: LT6200CS6#TRMPBFCT-ND; Supplier 3: Digi-Key; Supplier Part Number 3: LT6200CS6#TRMPBFDKR-ND; Supplier 4: Farnell; Supplier Part Number 4: 1663843; Supplier 5: Newark; Supplier Part Number 5: 57M9150; Packing: Mini Reel; RoHS: Pb-Free; Type: VFB; Vos (mV) Guaranteed: 1; Mounting Technology: Surface Mount; Code_JEDEC: MO-193; ComponentLink1Description: Manufacturer URL; ComponentLink1URL: http://www.linear.com/; ComponentLink2Description: Datasheet; ComponentLink2URL: http://cds.linear.com/docs/en/datasheet/62001ff.pdf; ComponentLink3Description: Package Specification; ComponentLink3URL: http://cds.linear.com/docs/en/packaging/SOT_6_05-08-1636.pdf
footprint LT-S6-6-TSOT-23_N (SOT23, 6-Leads, Body 2.90x1.63mm, Pitch 0.95mm, IPC Medium Density)
footprint LT-S6-6-TSOT-23_L (SOT23, 6-Leads, Body 2.90x1.63mm, Pitch 0.95mm, IPC High Density)
footprint LT-S6-6-TSOT-23_M (SOT23, 6-Leads, Body 2.90x1.63mm, Pitch 0.95mm, IPC Low Density)
pins: 1 OUT (out), 2 V- (power), 3 +IN (in), 4 -IN (in), 5 ~{SHDN} (in), 6 V+ (power)